# Altium schematic symbol library LED Multivibrator.SchLib: 6 symbols
Pins are listed as number, name and electrical type; pins without a type are passive.

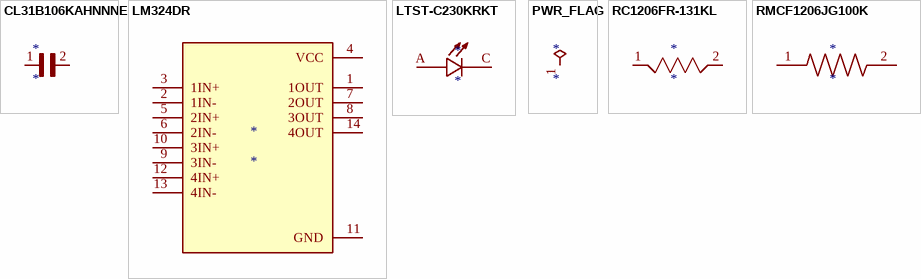
[diagram p0: symbols CL31B106KAHNNNE to RMCF1206JG100K]

## CL31B106KAHNNNE
designator *
pins: 1, 2

## LM324DR
designator *
pins: 1 1OUT, 2 1IN-, 3 1IN+, 4 VCC, 5 2IN+, 6 2IN-, 7 2OUT, 8 3OUT, 9 3IN-, 10 3IN+, 11 GND, 12 4IN+, 13 4IN-, 14 4OUT

## LTST-C230KRKT
designator *
pins: A, C

## PWR_FLAG
designator *  (graphical)
pins: 1

## RC1206FR-131KL
designator *
pins: 1, 2

## RMCF1206JG100K
designator *
pins: 1, 2